# EAGLE library part IPOD-DOCK-CONNECTOR (library ipod_con)
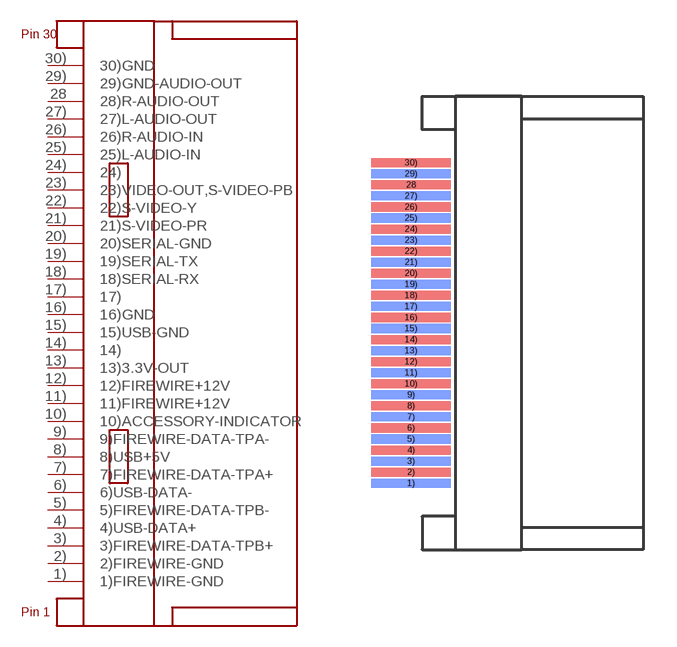
[diagram p0: symbol with the pads of IPOD_CONNECTOR; footprint IPOD_CONNECTOR]

Designator prefix -

## IPOD-DOCK-CONNECTOR  [IPOD_CONNECTOR]
1)  1)FIREWIRE-GND
2)  2)FIREWIRE-GND
3)  3)FIREWIRE-DATA-TPB+
4)  4)USB-DATA+
5)  5)FIREWIRE-DATA-TPB-
6)  6)USB-DATA-
7)  7)FIREWIRE-DATA-TPA+
8)  8)USB+5V
9)  9)FIREWIRE-DATA-TPA-
10)  10)ACCESSORY-INDICATOR
11)  11)FIREWIRE+12V
12)  12)FIREWIRE+12V
13)  13)3.3V-OUT
14)  14)
15)  15)USB-GND
16)  16)GND
17)  17)
18)  18)SERIAL-RX
19)  19)SERIAL-TX
20)  20)SERIAL-GND
21)  21)S-VIDEO-PR
22)  22)S-VIDEO-Y
23)  23)VIDEO-OUT,S-VIDEO-PB
24)  24)
25)  25)L-AUDIO-IN
26)  26)R-AUDIO-IN
27)  27)L-AUDIO-OUT
28  28)R-AUDIO-OUT
29)  29)GND-AUDIO-OUT
30)  30)GND

## Footprint IPOD_CONNECTOR (pad centres in mm)
smd 3.556 x 0.406 bottom: 1) -1.981,-7.925; 3) -1.981,-6.934; 5) -1.981,-5.944; 7) -1.981,-4.953; 9) -1.981,-3.962; 11) -1.981,-2.972; 13) -1.981,-1.981; 15) -1.981,-0.991; 17) -1.981,0; 19) -1.981,0.991; 21) -1.981,1.981; 23) -1.981,2.972; 25) -1.981,3.962; 27) -1.981,4.953; 29) -1.981,5.944
smd 3.556 x 0.406: 2) -1.981,-7.429; 4) -1.981,-6.439; 6) -1.981,-5.448; 8) -1.981,-4.458; 10) -1.981,-3.467; 12) -1.981,-2.477; 14) -1.981,-1.486; 16) -1.981,-0.495; 18) -1.981,0.495; 20) -1.981,1.486; 22) -1.981,2.477; 24) -1.981,3.467; 26) -1.981,4.458; 28 -1.981,5.448; 30) -1.981,6.439